# EAGLE library part STM8L151G (library MCU)
STM8L151 8-bit ultralow power MCU, up to 32 KB Flash, 1 KB Data EEPROM, RTC, LCD, timers, USART, I2C, SPI, ADC, DAC, comparators Datasheet <www.st.com/web/en/resource/technical/document/datasheet/CD00240181.pdf>
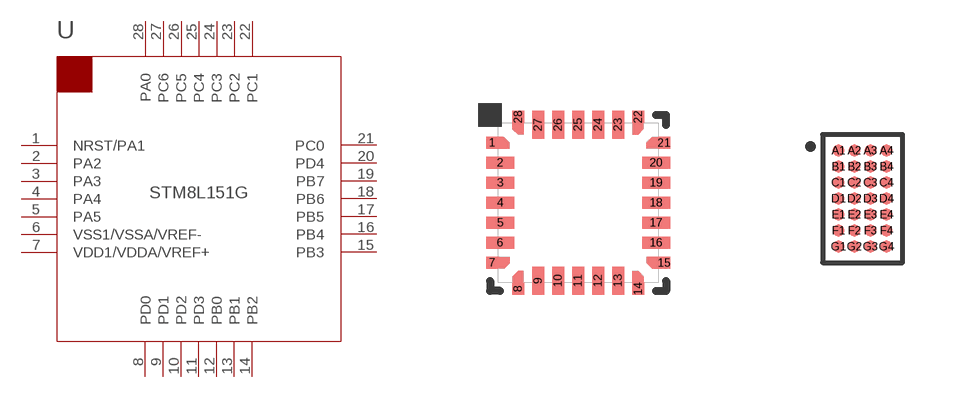
[diagram p2: symbol with the pads of UFQFPN28; footprints UFQFPN28, WLCSP28]

Designator prefix U

## STM8L151G4U6 (MEMORY: 16 Kbytes), STM8L151G6U6 (MEMORY: 32 Kbytes; PARTNO: 01-100427-00)  [UFQFPN28]
1  NRST/PA1
2  PA2
3  PA3
4  PA4
5  PA5
6  VSS1/VSSA/VREF-  pwr
7  VDD1/VDDA/VREF+  pwr
8  PD0
9  PD1
10  PD2
11  PD3
12  PB0
13  PB1
14  PB2
15  PB3
16  PB4
17  PB5
18  PB6
19  PB7
20  PD4
21  PC0
22  PC1
23  PC2
24  PC3
25  PC4
26  PC5
27  PC6
28  PA0

## STM8L151G4Y6, STM8L151G6Y6  [WLCSP28]
A1  PC1
A2  PC3
A3  PC5
A4  PA0
B1  PC0
B2  PC2
B3  PC6
B4  PA2
C1  PD4
C2  PC4
C3  NRST/PA1
C4  PA3
D1  PB5
D2  PB4
D3  PA4
D4  PA5
E1  PB7
E2  PB3
E3  PB0
E4  PD2
F1  PB6
F2  PB2
F3  PD3
F4  VSS1/VSSA/VREF-  pwr
G1  PB1
G2  PD1
G3  PD0
G4  VDD1/VDDA/VREF+  pwr

## Footprint UFQFPN28 (pad centres in mm)
UFQFPN-28
smd 0.3 x 0.3: 1 -2.15,1.5; 7 -2.15,-1.5; 8 -1.5,-2.15; 14 1.5,-2.15; 15 2.15,-1.5; 21 2.15,1.5; 22 1.5,2.15; 28 -1.5,2.15
smd 0.7 x 0.3: 2 -1.95,1; 3 -1.95,0.5; 4 -1.95,0; 5 -1.95,-0.5; 6 -1.95,-1; 16 1.95,-1; 17 1.95,-0.5; 18 1.95,0; 19 1.95,0.5; 20 1.95,1
smd 0.3 x 0.7: 9 -1,-1.95; 10 -0.5,-1.95; 11 0,-1.95; 12 0.5,-1.95; 13 1,-1.95; 23 1,1.95; 24 0.5,1.95; 25 0,1.95; 26 -0.5,1.95; 27 -1,1.95

## Footprint WLCSP28 (pad centres in mm)
28-pin wafer level chip size package (WLCSP28)
smd 0.3 x 0.3: A1 -0.6,1.2; A2 -0.2,1.2; A3 0.2,1.2; A4 0.6,1.2; B1 -0.6,0.8; B2 -0.2,0.8; B3 0.2,0.8; B4 0.6,0.8; C1 -0.6,0.4; C2 -0.2,0.4; C3 0.2,0.4; C4 0.6,0.4; D1 -0.6,0; D2 -0.2,0; D3 0.2,0; D4 0.6,0; E1 -0.6,-0.4; E2 -0.2,-0.4; E3 0.2,-0.4; E4 0.6,-0.4; F1 -0.6,-0.8; F2 -0.2,-0.8; F3 0.2,-0.8; F4 0.6,-0.8; G1 -0.6,-1.2; G2 -0.2,-1.2; G3 0.2,-1.2; G4 0.6,-1.2